# Altium footprint library SAMTEC_TFM-115-02-L-D-A.PcbLib: 1 footprints
Each footprint in its own frame and in the unit in brackets; x right, y up, seen from the top. Pads: shape width x height; smd on the part's side, far side on the other; paste and mask are expansions set on the pad; w line width, h text height; cw(c..) or ccw(c..) is an arc to the next point about the centre after c.
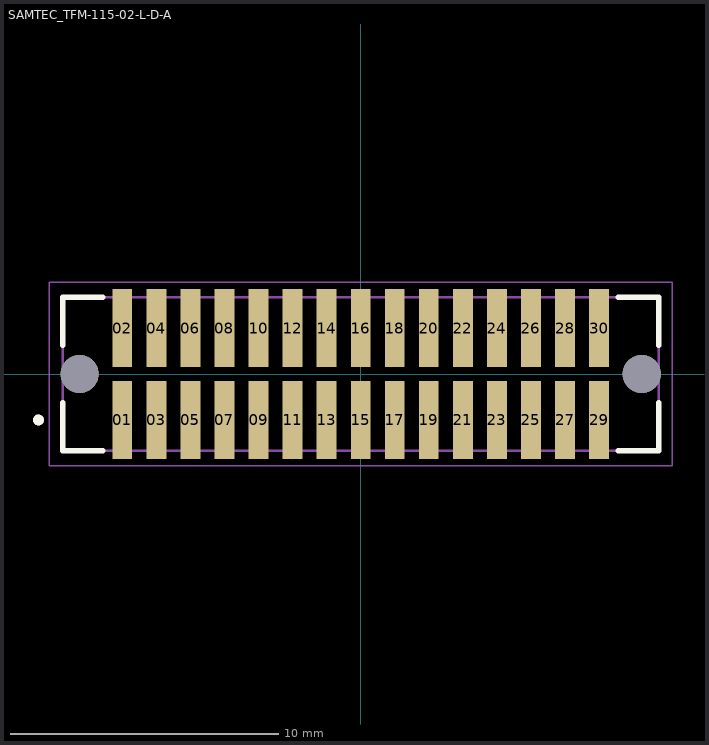
[diagram p0: the footprint, top view; thin cyan lines are the x and y axes]

## SAMTEC_TFM-115-02-L-D-A [mm]
pads (32):
  rect 0.74x2.92 smd: 01(-8.89,-1.715) 02(-8.89,1.715) 03(-7.62,-1.715) 04(-7.62,1.715) 05(-6.35,-1.715) 06(-6.35,1.715) 07(-5.08,-1.715) 08(-5.08,1.715) 09(-3.81,-1.715) 10(-3.81,1.715) 11(-2.54,-1.715) 12(-2.54,1.715) 13(-1.27,-1.715) 14(-1.27,1.715) 15(0,-1.715) 16(0,1.715) 17(1.27,-1.715) 18(1.27,1.715) 19(2.54,-1.715) 20(2.54,1.715) 21(3.81,-1.715) 22(3.81,1.715) 23(5.08,-1.715) 24(5.08,1.715) 25(6.35,-1.715) 26(6.35,1.715) 27(7.62,-1.715) 28(7.62,1.715) 29(8.89,-1.715) 30(8.89,1.715)
  round 1.42 hole 1.42 unplated: ""(-10.48,0) ""(10.48,0)
Top Overlay:
  circle w0.2: c-12.015,-1.715 r0.1
  lines w0.2: -11.115,-1.064 -11.115,-2.86 -9.61,-2.86 ; -11.115,1.064 -11.115,2.86 -9.61,2.86 ; 9.61,-2.86 11.115,-2.86 11.115,-1.064 ; 9.61,2.86 11.115,2.86 11.115,1.064
Mechanical 13:
  circle w0.2: c-12.015,-1.715 r0.1
  lines w0.1: -11.115,-2.86 -11.115,2.86 ; -11.115,-2.86 11.115,-2.86 ; -11.115,-2.86 -11.115,2.86 ; -11.115,2.86 11.115,2.86 ; -11.115,2.86 11.115,2.86 ; 11.115,-2.86 11.115,2.86 ; 11.115,-2.86 11.115,2.86
Mechanical 15:
  lines w0.05: -11.615,-3.425 -11.615,3.425 11.615,3.425 11.615,-3.425 -11.615,-3.425
3D body "TFM-115-02-L-D-A.stp": height 5.71, standoff -1.02, extent -11.049,-2.984 11.176,2.984